# Altium footprint library corrcted footprint.PcbLib: 2 footprints
Each footprint in its own frame and in the unit in brackets; x right, y up, seen from the top. Pads: shape width x height; smd on the part's side, far side on the other; paste and mask are expansions set on the pad; w line width, h text height; cw(c..) or ccw(c..) is an arc to the next point about the centre after c.
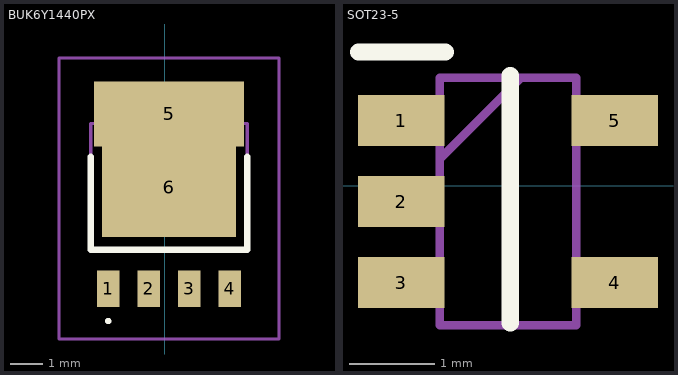
[diagram p0: the footprints below, top view; thin cyan lines are the x and y axes]

## BUK6Y1440PX [mil]
pads (6):
  rect 27.56x45.28 smd: 1(-70,85) 2(-20,85) 3(30,85) 4(80,85)
  rect 185.04x80 smd: 5(5,300.55)
  rect 165.35x122.05 smd: 6(5,210)
Top Overlay:
  lines w3.94: -70,43.15 ccw(c-70,45.12) -70,47.09 ccw(c-70,45.12) -70,43.15
  lines w7.87: -91.46,247.87 -91.46,133.23 101.46,133.23 101.46,247.87
Mechanical 13:
  lines w3.94: -91.46,133.23 101.46,133.23 101.46,288.74 -91.46,288.74 -91.46,133.23
Mechanical 15:
  lines w3.94: -130.83,22.95 140.83,22.95 140.83,369.45 -130.83,369.45 -130.83,22.95
3D body "BUK6Y14-40PX.stp": height 39.28, standoff 0, extent -89.69,75.83 99.69,316.38

## SOT23-5 [mm]
pads (5):
  rect 1.016x0.6 smd: 1(-3.77,0.762) 2(-3.77,-0.188) 3(-3.77,-1.138) 4(-1.27,-1.138) 5(-1.27,0.762)
Top Overlay:
  lines w0.203: -4.273,1.565 -3.257,1.565 ; -2.495,-1.61 -2.495,1.29
Mechanical 13:
  lines w0.1: -3.32,0.312 -2.37,1.262 ; -3.32,-1.638 -1.72,-1.638 -1.72,1.262 -3.32,1.262 -3.32,-1.638
3D body "SN74LVC1G14DBVR.stp": height 1.45, standoff 0, extent -3.92,-1.638 -1.12,1.262